# Altium footprint library OSC_HC536R-STD.PcbLib: 1 footprints
Each footprint in its own frame and in the unit in brackets; x right, y up, seen from the top. Pads: shape width x height; smd on the part's side, far side on the other; paste and mask are expansions set on the pad; w line width, h text height; cw(c..) or ccw(c..) is an arc to the next point about the centre after c.
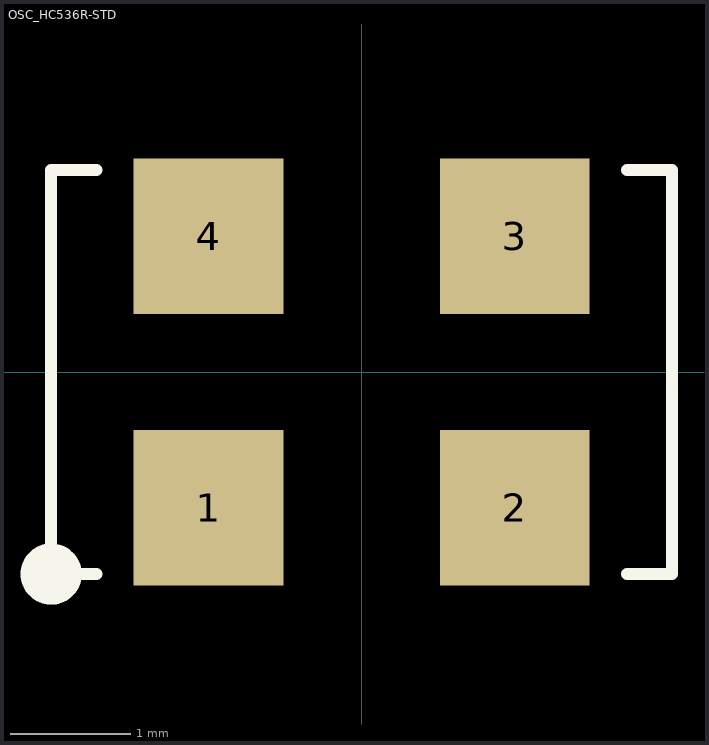
[diagram p0: the footprint, top view; thin cyan lines are the x and y axes]

## OSC_HC536R-STD [mm]
pads (4):
  rect 1.24x1.29 smd: 1(-1.27,-1.125) 2(1.27,-1.125) 3(1.27,1.125) 4(-1.27,1.125)
Top Overlay:
  circle w0.254: c-2.575,-1.675 r0.127
  lines w0.1: -2.2,-1.675 -2.575,-1.675 -2.575,1.675 -2.2,1.675 ; 2.2,-1.675 2.575,-1.675 2.575,1.675 2.2,1.675
3D body: height 1.5, standoff 0, extent -2.54,-1.905 2.54,1.905